# Altium schematic symbol library NTC.SchLib: 21 symbols
Pins are listed as number, name and electrical type; pins without a type are passive.

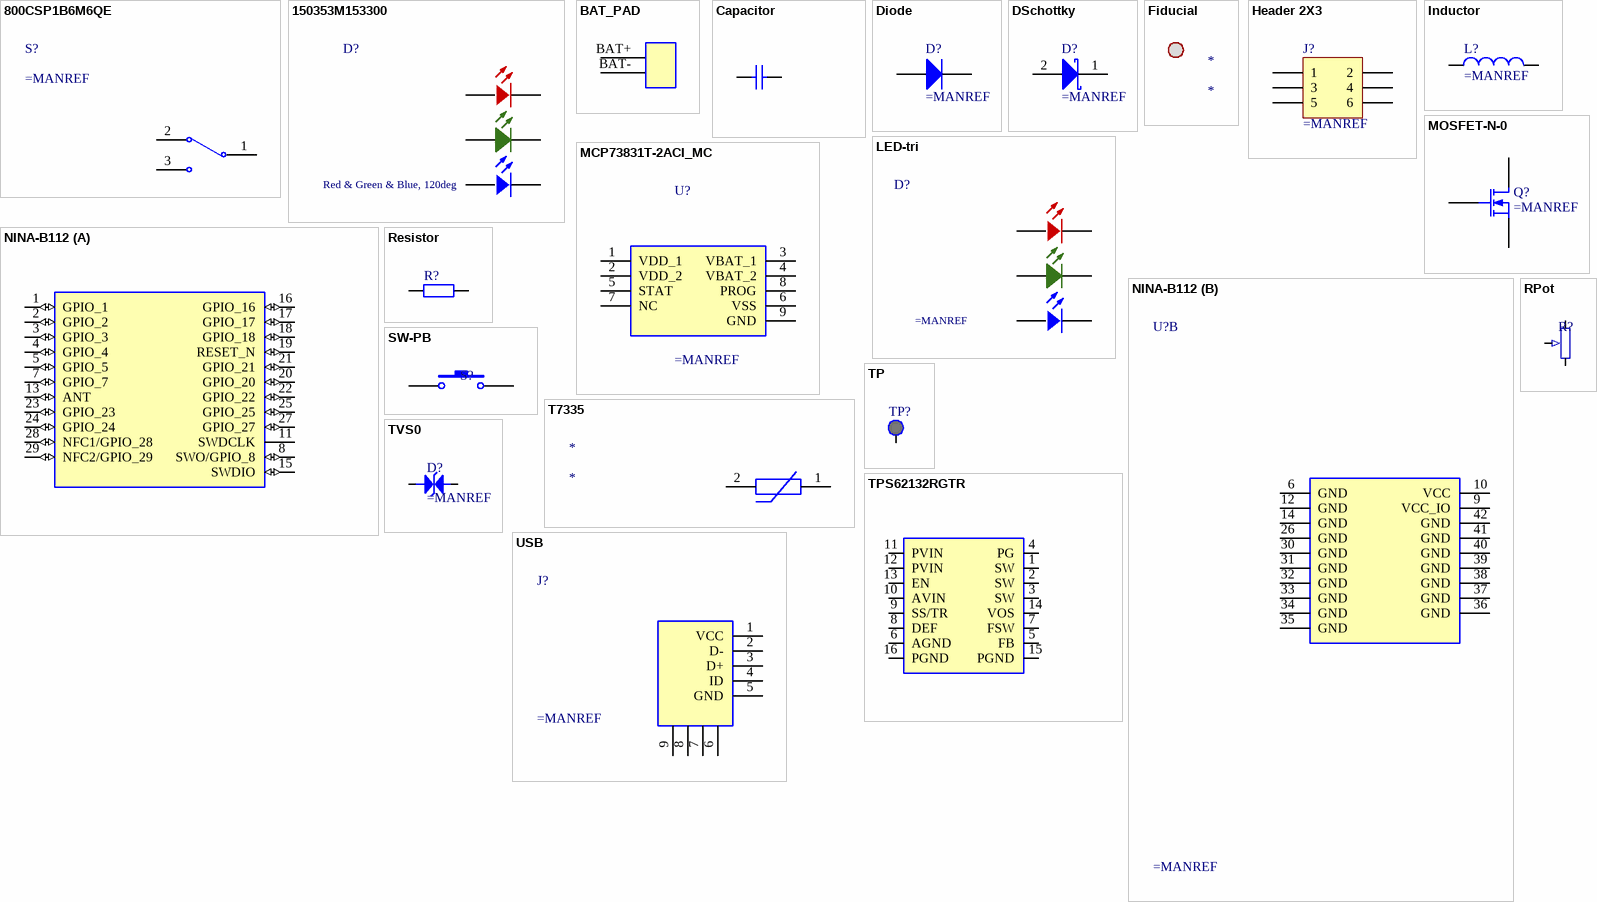
[diagram p0: symbols 800CSP1B6M6QE to USB]

## 800CSP1B6M6QE
designator S?
pins: 1, 2, 3

## 150353M153300
designator D?, comment Red & Green & Blue, 120deg
footprint WL-SFTW_5050_150505M173300
pins: 1 A, 2 K, 3 A, 4 K, 5 A, 6 K

## BAT_PAD
designator J?
pins: BAT+, BAT-

## Capacitor
designator C?  (value not drawn)
pins: 1, 2

## Diode
designator D?
pins: 1 K, 2 A

## DSchottky
designator D?
pins: 1 K, 2 A

## Fiducial
designator *

## Header 2X3
designator J?
pins: 1, 2, 3, 4, 5, 6

## Inductor
designator L?
pins: 1, 2

## LED-tri
designator D?
pins: 1 A, 2 K, 3 A, 4 K, 5 A, 6 K

## MCP73831T-2ACI_MC
designator U?
pins: 1 VDD_1, 2 VDD_2, 3 VBAT_1, 4 VBAT_2, 5 STAT, 6 VSS, 7 NC, 8 PROG, 9 GND

## MOSFET-N-0
designator Q?
pins: 1 G, 2 S, 3 D

## NINA-B112
designator U?
part A pins: 1 GPIO_1 (io), 2 GPIO_2 (io), 3 GPIO_3 (io), 4 GPIO_4 (io), 5 GPIO_5 (io), 7 GPIO_7 (io), 8 SWO/GPIO_8 (io), 11 SWDCLK, 13 ANT (io), 15 SWDIO (io), 16 GPIO_16 (io), 17 GPIO_17 (io), 18 GPIO_18 (io), 19 RESET_N (io), 20 GPIO_20 (io), 21 GPIO_21 (io), 22 GPIO_22 (io), 23 GPIO_23 (io), 24 GPIO_24 (io), 25 GPIO_25 (io), 27 GPIO_27 (io), 28 NFC1/GPIO_28 (io), 29 NFC2/GPIO_29 (io)
part B pins: 6 GND (power), 9 VCC_IO (power), 10 VCC (power), 12 GND (power), 14 GND (power), 26 GND (power), 30 GND (power), 31 GND (power), 32 GND (power), 33 GND (power), 34 GND (power), 35 GND (power), 36 GND (power), 37 GND (power), 38 GND (power), 39 GND (power), 40 GND (power), 41 GND (power), 42 GND (power)

## Resistor
designator R?  (value not drawn)
pins: 1, 2

## RPot
designator R?
pins: 1, 2, 3

## SW-PB
designator S?
pins: 1, 2

## T7335
designator *
pins: 1, 2

## TP
designator TP?, comment Test Point  (value not drawn)  (no BOM)
pins: 1

## TPS62132RGTR
designator U?
pins: 1 SW, 2 SW, 3 SW, 4 PG, 5 FB, 6 AGND, 7 FSW, 8 DEF, 9 SS/TR, 10 AVIN, 11 PVIN, 12 PVIN, 13 EN, 14 VOS, 15 PGND, 16 PGND

## TVS0
designator D?
pins: 1, 2 K1A2

## USB
designator J?
pins: 1 VCC, 2 D-, 3 D+, 4 ID, 5 GND, 6, 7, 8   Shield, 9